# Altium schematic symbol library SS_Relay1.SchLib: 1 symbol
Pins are listed as number, name and electrical type; pins without a type are passive.

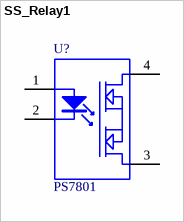
[diagram p0: symbol SS_Relay1]

## SS_Relay1
designator U?, comment PS7801
Solid State Relay
pins: 1, 2, 3, 4
2 alternate drawings of the same symbol